# EAGLE library part XC3S400 (library be_xilinx)
edited: Mario Blunk
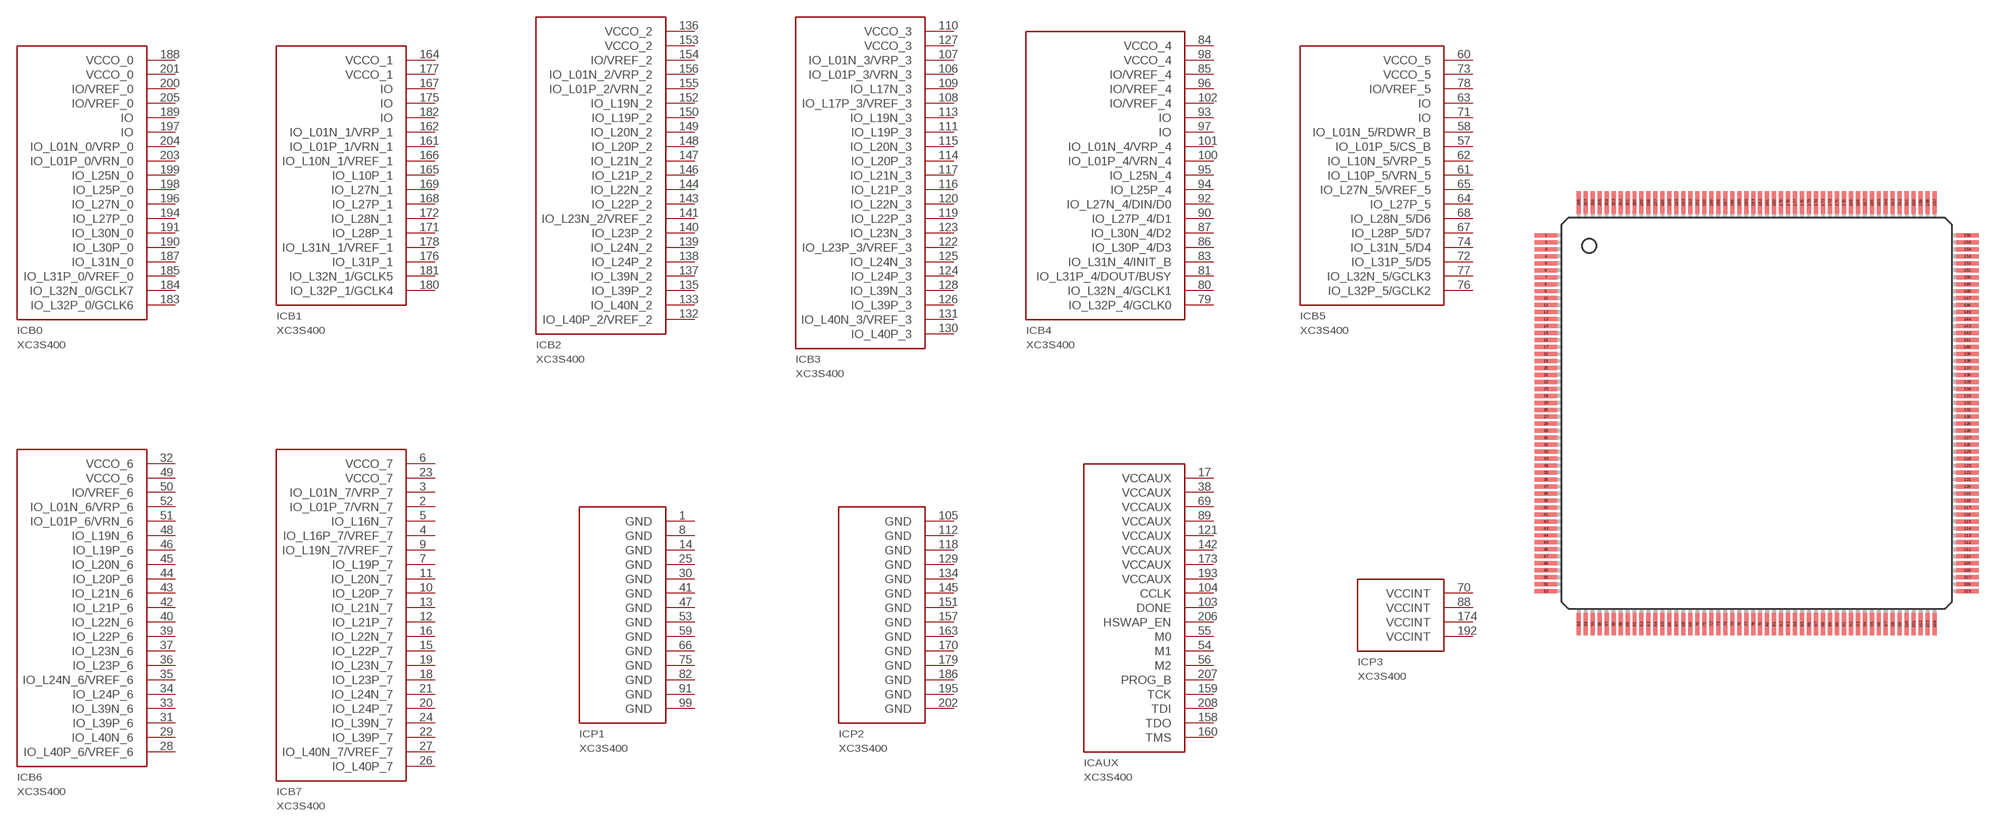
[diagram p1: symbol with the pads of S_PQ208; footprint S_PQ208]

Designator prefix IC; gates B0=XC3S400_PQ208_0 B1=XC3S400_PQ208_1 B2=XC3S400_PQ208_2 B3=XC3S400_PQ208_3 B4=XC3S400_PQ208_4 B5=XC3S400_PQ208_5 B6=XC3S400_PQ208_6 B7=XC3S400_PQ208_7 P1=XC3S400_PQ208_GND_A P2=XC3S400_PQ208_GND_B AUX=XC3S400_PQ208_VCC_AUX P3=XC3S400_PQ208_VCC_INT

## XC3S400-XPQ208C (BOM: YES; COMMISSIONED: 2015-01-28; PART_CODE_BEL: IC_PAC_S_PQ208_VAL_XC3S400-4PQG208C)  [S_PQ208]
1  P1:GND  pwr
2  B7:IO_L01P_7/VRN_7
3  B7:IO_L01N_7/VRP_7
4  B7:IO_L16P_7/VREF_7
5  B7:IO_L16N_7
6  B7:VCCO_7  in
7  B7:IO_L19P_7
8  P1:GND  pwr
9  B7:IO_L19N_7/VREF_7
10  B7:IO_L20P_7
11  B7:IO_L20N_7
12  B7:IO_L21P_7
13  B7:IO_L21N_7
14  P1:GND  pwr
15  B7:IO_L22P_7
16  B7:IO_L22N_7
17  AUX:VCCAUX  in
18  B7:IO_L23P_7
19  B7:IO_L23N_7
20  B7:IO_L24P_7
21  B7:IO_L24N_7
22  B7:IO_L39P_7
23  B7:VCCO_7  in
24  B7:IO_L39N_7
25  P1:GND  pwr
26  B7:IO_L40P_7
27  B7:IO_L40N_7/VREF_7
28  B6:IO_L40P_6/VREF_6
29  B6:IO_L40N_6
30  P1:GND  pwr
31  B6:IO_L39P_6
32  B6:VCCO_6  in
33  B6:IO_L39N_6
34  B6:IO_L24P_6
35  B6:IO_L24N_6/VREF_6
36  B6:IO_L23P_6
37  B6:IO_L23N_6
38  AUX:VCCAUX  in
39  B6:IO_L22P_6
40  B6:IO_L22N_6
41  P1:GND  pwr
42  B6:IO_L21P_6
43  B6:IO_L21N_6
44  B6:IO_L20P_6
45  B6:IO_L20N_6
46  B6:IO_L19P_6
47  P1:GND  pwr
48  B6:IO_L19N_6
49  B6:VCCO_6  in
50  B6:IO/VREF_6
51  B6:IO_L01P_6/VRN_6
52  B6:IO_L01N_6/VRP_6
53  P1:GND  pwr
54  AUX:M1  in
55  AUX:M0  in
56  AUX:M2  in
57  B5:IO_L01P_5/CS_B
58  B5:IO_L01N_5/RDWR_B
59  P1:GND  pwr
60  B5:VCCO_5  in
61  B5:IO_L10P_5/VRN_5
62  B5:IO_L10N_5/VRP_5
63  B5:IO
64  B5:IO_L27P_5
65  B5:IO_L27N_5/VREF_5
66  P1:GND  pwr
67  B5:IO_L28P_5/D7
68  B5:IO_L28N_5/D6
69  AUX:VCCAUX  in
70  P3:VCCINT  in
71  B5:IO
72  B5:IO_L31P_5/D5
73  B5:VCCO_5  in
74  B5:IO_L31N_5/D4
75  P1:GND  pwr
76  B5:IO_L32P_5/GCLK2
77  B5:IO_L32N_5/GCLK3
78  B5:IO/VREF_5
79  B4:IO_L32P_4/GCLK0
80  B4:IO_L32N_4/GCLK1
81  B4:IO_L31P_4/DOUT/BUSY
82  P1:GND  pwr
83  B4:IO_L31N_4/INIT_B
84  B4:VCCO_4  in
85  B4:IO/VREF_4
86  B4:IO_L30P_4/D3
87  B4:IO_L30N_4/D2
88  P3:VCCINT  in
89  AUX:VCCAUX  in
90  B4:IO_L27P_4/D1
91  P1:GND  pwr
92  B4:IO_L27N_4/DIN/D0
93  B4:IO
94  B4:IO_L25P_4
95  B4:IO_L25N_4
96  B4:IO/VREF_4
97  B4:IO
98  B4:VCCO_4  in
99  P1:GND  pwr
100  B4:IO_L01P_4/VRN_4
101  B4:IO_L01N_4/VRP_4
102  B4:IO/VREF_4
103  AUX:DONE
104  AUX:CCLK
105  P2:GND  pwr
106  B3:IO_L01P_3/VRN_3
107  B3:IO_L01N_3/VRP_3
108  B3:IO_L17P_3/VREF_3
109  B3:IO_L17N_3
110  B3:VCCO_3  in
111  B3:IO_L19P_3
112  P2:GND  pwr
113  B3:IO_L19N_3
114  B3:IO_L20P_3
115  B3:IO_L20N_3
116  B3:IO_L21P_3
117  B3:IO_L21N_3
118  P2:GND  pwr
119  B3:IO_L22P_3
120  B3:IO_L22N_3
121  AUX:VCCAUX  in
122  B3:IO_L23P_3/VREF_3
123  B3:IO_L23N_3
124  B3:IO_L24P_3
125  B3:IO_L24N_3
126  B3:IO_L39P_3
127  B3:VCCO_3  in
128  B3:IO_L39N_3
129  P2:GND  pwr
130  B3:IO_L40P_3
131  B3:IO_L40N_3/VREF_3
132  B2:IO_L40P_2/VREF_2
133  B2:IO_L40N_2
134  P2:GND  pwr
135  B2:IO_L39P_2
136  B2:VCCO_2  in
137  B2:IO_L39N_2
138  B2:IO_L24P_2
139  B2:IO_L24N_2
140  B2:IO_L23P_2
141  B2:IO_L23N_2/VREF_2
142  AUX:VCCAUX  in
143  B2:IO_L22P_2
144  B2:IO_L22N_2
145  P2:GND  pwr
146  B2:IO_L21P_2
147  B2:IO_L21N_2
148  B2:IO_L20P_2
149  B2:IO_L20N_2
150  B2:IO_L19P_2
151  P2:GND  pwr
152  B2:IO_L19N_2
153  B2:VCCO_2  in
154  B2:IO/VREF_2
155  B2:IO_L01P_2/VRN_2
156  B2:IO_L01N_2/VRP_2
157  P2:GND  pwr
158  AUX:TDO  out
159  AUX:TCK  in
160  AUX:TMS  in
161  B1:IO_L01P_1/VRN_1
162  B1:IO_L01N_1/VRP_1
163  P2:GND  pwr
164  B1:VCCO_1  in
165  B1:IO_L10P_1
166  B1:IO_L10N_1/VREF_1
167  B1:IO
168  B1:IO_L27P_1
169  B1:IO_L27N_1
170  P2:GND  pwr
171  B1:IO_L28P_1
172  B1:IO_L28N_1
173  AUX:VCCAUX  in
174  P3:VCCINT  in
175  B1:IO
176  B1:IO_L31P_1
177  B1:VCCO_1  in
178  B1:IO_L31N_1/VREF_1
179  P2:GND  pwr
180  B1:IO_L32P_1/GCLK4
181  B1:IO_L32N_1/GCLK5
182  B1:IO
183  B0:IO_L32P_0/GCLK6
184  B0:IO_L32N_0/GCLK7
185  B0:IO_L31P_0/VREF_0
186  P2:GND  pwr
187  B0:IO_L31N_0
188  B0:VCCO_0  in
189  B0:IO
190  B0:IO_L30P_0
191  B0:IO_L30N_0
192  P3:VCCINT  in
193  AUX:VCCAUX  in
194  B0:IO_L27P_0
195  P2:GND  pwr
196  B0:IO_L27N_0
197  B0:IO
198  B0:IO_L25P_0
199  B0:IO_L25N_0
200  B0:IO/VREF_0
201  B0:VCCO_0  in
202  P2:GND  pwr
203  B0:IO_L01P_0/VRN_0
204  B0:IO_L01N_0/VRP_0
205  B0:IO/VREF_0
206  AUX:HSWAP_EN  in
207  AUX:PROG_B  in
208  AUX:TDI  in

## Footprint S_PQ208 (pad centres in mm)
edited: Mario Blunk date: 2015-01-28
smd 1.6 x 0.3: 1 -15.1,12.75; 2 -15.1,12.25; 3 -15.1,11.75; 4 -15.1,11.25; 5 -15.1,10.75; 6 -15.1,10.25; 7 -15.1,9.75; 8 -15.1,9.25; 9 -15.1,8.75; 10 -15.1,8.25; 11 -15.1,7.75; 12 -15.1,7.25; 13 -15.1,6.75; 14 -15.1,6.25; 15 -15.1,5.75; 16 -15.1,5.25; 17 -15.1,4.75; 18 -15.1,4.25; 19 -15.1,3.75; 20 -15.1,3.25; 21 -15.1,2.75; 22 -15.1,2.25; 23 -15.1,1.75; 24 -15.1,1.25; 25 -15.1,0.75; 26 -15.1,0.25; 27 -15.1,-0.25; 28 -15.1,-0.75; 29 -15.1,-1.25; 30 -15.1,-1.75; 31 -15.1,-2.25; 32 -15.1,-2.75; 33 -15.1,-3.25; 34 -15.1,-3.75; 35 -15.1,-4.25; 36 -15.1,-4.75; 37 -15.1,-5.25; 38 -15.1,-5.75; 39 -15.1,-6.25; 40 -15.1,-6.75; 41 -15.1,-7.25; 42 -15.1,-7.75; 43 -15.1,-8.25; 44 -15.1,-8.75; 45 -15.1,-9.25; 46 -15.1,-9.75; 47 -15.1,-10.25; 48 -15.1,-10.75; 49 -15.1,-11.25; 50 -15.1,-11.75; 51 -15.1,-12.25; 52 -15.1,-12.75; 105 15.1,-12.75; 106 15.1,-12.25; 107 15.1,-11.75; 108 15.1,-11.25; 109 15.1,-10.75; 110 15.1,-10.25; 111 15.1,-9.75; 112 15.1,-9.25; 113 15.1,-8.75; 114 15.1,-8.25; 115 15.1,-7.75; 116 15.1,-7.25; 117 15.1,-6.75; 118 15.1,-6.25; 119 15.1,-5.75; 120 15.1,-5.25; 121 15.1,-4.75; 122 15.1,-4.25; 123 15.1,-3.75; 124 15.1,-3.25; 125 15.1,-2.75; 126 15.1,-2.25; 127 15.1,-1.75; 128 15.1,-1.25; 129 15.1,-0.75; 130 15.1,-0.25; 131 15.1,0.25; 132 15.1,0.75; 133 15.1,1.25; 134 15.1,1.75; 135 15.1,2.25; 136 15.1,2.75; 137 15.1,3.25; 138 15.1,3.75; 139 15.1,4.25; 140 15.1,4.75; 141 15.1,5.25; 142 15.1,5.75; 143 15.1,6.25; 144 15.1,6.75; 145 15.1,7.25; 146 15.1,7.75; 147 15.1,8.25; 148 15.1,8.75; 149 15.1,9.25; 150 15.1,9.75; 151 15.1,10.25; 152 15.1,10.75; 153 15.1,11.25; 154 15.1,11.75; 155 15.1,12.25; 156 15.1,12.75
smd 0.3 x 1.6: 53 -12.75,-15.1; 54 -12.25,-15.1; 55 -11.75,-15.1; 56 -11.25,-15.1; 57 -10.75,-15.1; 58 -10.25,-15.1; 59 -9.75,-15.1; 60 -9.25,-15.1; 61 -8.75,-15.1; 62 -8.25,-15.1; 63 -7.75,-15.1; 64 -7.25,-15.1; 65 -6.75,-15.1; 66 -6.25,-15.1; 67 -5.75,-15.1; 68 -5.25,-15.1; 69 -4.75,-15.1; 70 -4.25,-15.1; 71 -3.75,-15.1; 72 -3.25,-15.1; 73 -2.75,-15.1; 74 -2.25,-15.1; 75 -1.75,-15.1; 76 -1.25,-15.1; 77 -0.75,-15.1; 78 -0.25,-15.1; 79 0.25,-15.1; 80 0.75,-15.1; 81 1.25,-15.1; 82 1.75,-15.1; 83 2.25,-15.1; 84 2.75,-15.1; 85 3.25,-15.1; 86 3.75,-15.1; 87 4.25,-15.1; 88 4.75,-15.1; 89 5.25,-15.1; 90 5.75,-15.1; 91 6.25,-15.1; 92 6.75,-15.1; 93 7.25,-15.1; 94 7.75,-15.1; 95 8.25,-15.1; 96 8.75,-15.1; 97 9.25,-15.1; 98 9.75,-15.1; 99 10.25,-15.1; 100 10.75,-15.1; 101 11.25,-15.1; 102 11.75,-15.1; 103 12.25,-15.1; 104 12.75,-15.1; 157 12.75,15.1; 158 12.25,15.1; 159 11.75,15.1; 160 11.25,15.1; 161 10.75,15.1; 162 10.25,15.1; 163 9.75,15.1; 164 9.25,15.1; 165 8.75,15.1; 166 8.25,15.1; 167 7.75,15.1; 168 7.25,15.1; 169 6.75,15.1; 170 6.25,15.1; 171 5.75,15.1; 172 5.25,15.1; 173 4.75,15.1; 174 4.25,15.1; 175 3.75,15.1; 176 3.25,15.1; 177 2.75,15.1; 178 2.25,15.1; 179 1.75,15.1; 180 1.25,15.1; 181 0.75,15.1; 182 0.25,15.1; 183 -0.25,15.1; 184 -0.75,15.1; 185 -1.25,15.1; 186 -1.75,15.1; 187 -2.25,15.1; 188 -2.75,15.1; 189 -3.25,15.1; 190 -3.75,15.1; 191 -4.25,15.1; 192 -4.75,15.1; 193 -5.25,15.1; 194 -5.75,15.1; 195 -6.25,15.1; 196 -6.75,15.1; 197 -7.25,15.1; 198 -7.75,15.1; 199 -8.25,15.1; 200 -8.75,15.1; 201 -9.25,15.1; 202 -9.75,15.1; 203 -10.25,15.1; 204 -10.75,15.1; 205 -11.25,15.1; 206 -11.75,15.1; 207 -12.25,15.1; 208 -12.75,15.1